# Altium schematic symbol library Sch_Diodes.SchLib: 3 symbols
Pins are listed as number, name and electrical type; pins without a type are passive.

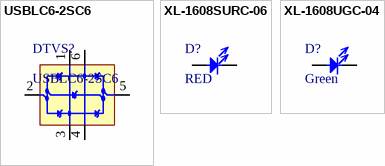
[diagram p0: symbols USBLC6-2SC6 to XL-1608UGC-04]

## USBLC6-2SC6
designator DTVS?
15V 6V SOT-23-6 ESD and Surge Protection (TVS/ESD) ROHS; Manufacturer: UMW(Youtai Semiconductor Co., Ltd.); Supplier: Digikey; Supplier Part Number: 4518-USBLC6-2SC6CT-ND; Manufacturer Part Number: USBLC6-2SC6; RoHS: Yes; Category: Uncategorized; Stock: 6006; Pricing: 1=0.92, 10=0.553, 25=0.4576, 100=0.35, 250=0.29696, 500=0.26434, 1000=0.23701 (USD); LCSC Part #: C2687116
footprint SOT23-6
pins: 1 USB_D- (io), 2 GND (power), 3 USB_D+ (io), 4 D+ (io), 5 +VBUS (power), 6 D- (io)

## XL-1608SURC-06
designator D?, comment RED
20mA 225mcd Water Clear op View Mount 620nm~630nm Red 120° 50mW 2.3V 0603 LED Indication - Discrete ROHS; Manufacturer: XINGLIGHT; Manufacturer Part Number: XL-1608SURC-06; Value: RED LED; Supplier: LCSC; RoHS: Yes; LCSC Part #: C965799; Package: 0603
footprint LED_0603
pins: 1 A, 2 K

## XL-1608UGC-04
designator D?, comment Green
20mA 810mcd Water Clear Discrete Diode 515nm~535nm op View Mount Emerald Green 120° 70mW 3.3V 0603 LED Indication - Discrete ROHS; Manufacturer: XINGLIGHT; Manufacturer Part Number: XL-1608UGC-04; Value: Green LED; Supplier: LCSC; RoHS: Yes; LCSC Part #: C965804; Package: 0603
footprint LED_0603
pins: 1 A, 2 K